# Altium footprint library PEC12-4220F-S0024.PcbLib: 1 footprints
Each footprint in its own frame and in the unit in brackets; x right, y up, seen from the top. Pads: shape width x height; smd on the part's side, far side on the other; paste and mask are expansions set on the pad; w line width, h text height; cw(c..) or ccw(c..) is an arc to the next point about the centre after c.
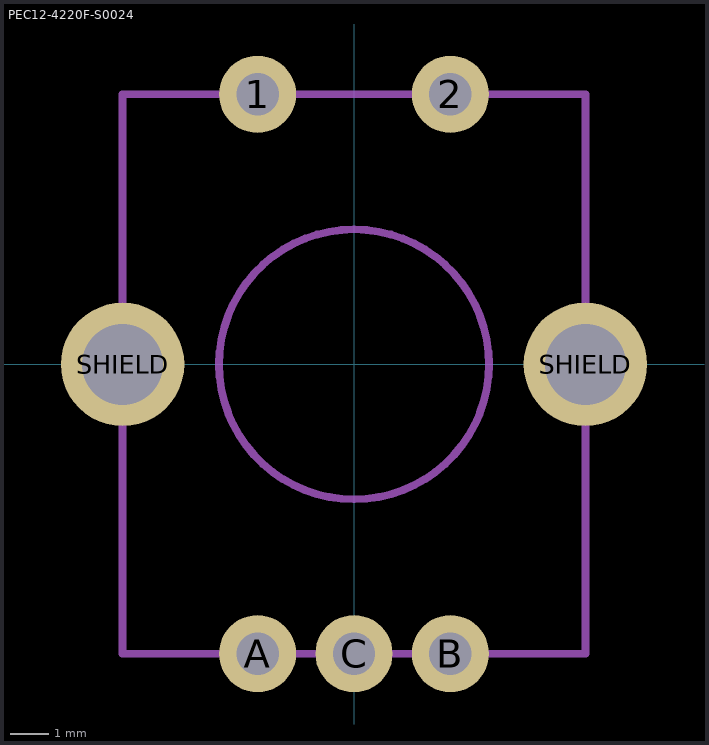
[diagram p0: the footprint, top view; thin cyan lines are the x and y axes]

## PEC12-4220F-S0024 [mm]
pads (7):
  round 2 hole 1.1: 1(-2.5,7) 2(2.5,7) A(-2.5,-7.5) B(2.5,-7.5) C(0,-7.5)
  round 3.2 hole 2.1: SHIELD(-6,0) SHIELD(6,0)
Mechanical 13:
  circle w0.2: c0,0 r3.5
  lines w0.2: -6,-7.5 -6,7 6,7 6,-7.5 -6,-7.5
  text ".Designator" at -4.699,3.429 h2.5
3D body: height 20, standoff 5, extent -3.51,-3.51 3.51,3.51
3D body: height 5, standoff 0, extent -5.999,-7.499 5.999,6.999